# Altium footprint library atmega32u4.PcbLib: 3 footprints
Each footprint in its own frame and in the unit in brackets; x right, y up, seen from the top. Pads: shape width x height; smd on the part's side, far side on the other; paste and mask are expansions set on the pad; w line width, h text height; cw(c..) or ccw(c..) is an arc to the next point about the centre after c.
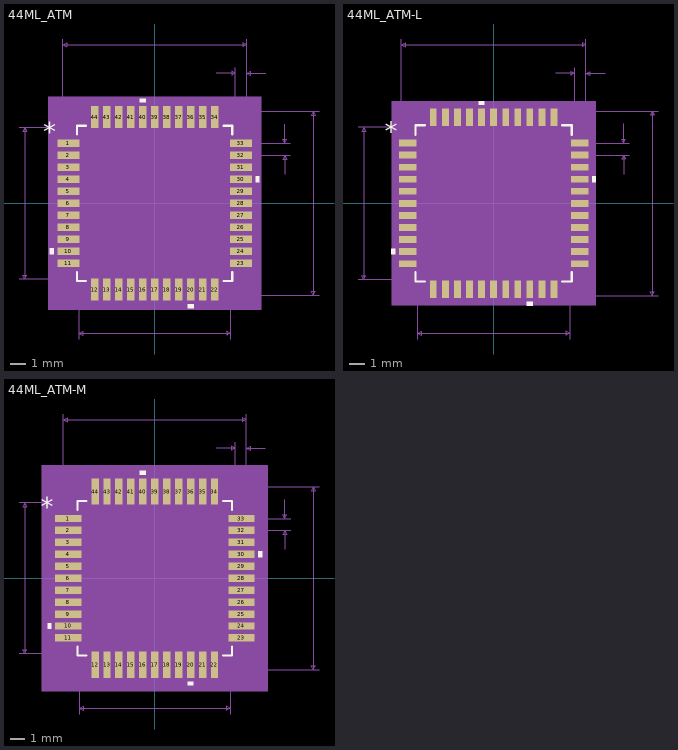
[diagram p0: the footprints below, top view; thin cyan lines are the x and y axes]

## 44ML_ATM [mm]
pads (44):
  rect 1.45x0.5 smd paste+0 mask+0: 1(-5.75,4) 2(-5.75,3.2) 3(-5.75,2.4) 4(-5.75,1.6) 5(-5.75,0.8) 6(-5.75,0) 7(-5.75,-0.8) 8(-5.75,-1.6) 9(-5.75,-2.4) 10(-5.75,-3.2) 11(-5.75,-4) 23(5.75,-4) 24(5.75,-3.2) 25(5.75,-2.4) 26(5.75,-1.6) 27(5.75,-0.8) 28(5.75,0) 29(5.75,0.8) 30(5.75,1.6) 31(5.75,2.4) 32(5.75,3.2) 33(5.75,4)
  rect 0.5x1.45 smd paste+0 mask+0: 12(-4,-5.75) 13(-3.2,-5.75) 14(-2.4,-5.75) 15(-1.6,-5.75) 16(-0.8,-5.75) 17(0,-5.75) 18(0.8,-5.75) 19(1.6,-5.75) 20(2.4,-5.75) 21(3.2,-5.75) 22(4,-5.75) 34(4,5.75) 35(3.2,5.75) 36(2.4,5.75) 37(1.6,5.75) 38(0.8,5.75) 39(0,5.75) 40(-0.8,5.75) 41(-1.6,5.75) 42(-2.4,5.75) 43(-3.2,5.75) 44(-4,5.75)
Top Overlay:
  region: -6.729,-3.009 -6.983,-3.009 -6.983,-3.39 -6.729,-3.39
  region: 2.591,-6.729 2.21,-6.729 2.21,-6.983 2.591,-6.983
  region: 6.729,1.79 6.983,1.79 6.983,1.409 6.729,1.409
  region: -0.61,6.729 -0.991,6.729 -0.991,6.983 -0.61,6.983
  lines w0.152: -5.177,-4.583 -5.177,-5.177 -4.583,-5.177 ; -5.177,4.583 -5.177,5.177 -4.583,5.177 ; 4.583,-5.177 5.177,-5.177 5.177,-4.583 ; 4.583,5.177 5.177,5.177 5.177,4.583
  text "*" at -7.428,4.146 h1.27
Mechanical 5:
  region: 7.11,-7.11 -7.11,-7.11 -7.11,7.11 7.11,7.11
Mechanical 7:
  lines w0.025: -9.046,-5.05 -4,-5.05 ; -9.046,5.05 -4,5.05 ; -6.125,4 -6.125,10.951 ; -5.05,-9.046 -5.05,-4 ; 4,-6.125 10.951,-6.125 ; 4,6.125 10.951,6.125 ; 4.105,8.665 5.375,8.665 ; 5.05,-9.046 5.05,-4 ; 5.375,4 5.375,9.046 ; 5.75,3.2 9.046,3.2 ; 5.75,4 9.046,4 ; 6.125,9.046 6.125,4 6.125,10.951 ; 7.395,8.665 6.125,8.665 ; 8.665,1.93 8.665,3.2 ; 8.665,5.27 8.665,4 ; -8.665,-5.05 -8.665,5.05 ; -8.665,-5.05 -8.792,-4.796 -8.538,-4.796 -8.665,-5.05 ; -8.665,5.05 -8.792,4.796 -8.538,4.796 -8.665,5.05 ; -6.125,10.57 6.125,10.57 ; -6.125,10.57 -5.871,10.697 -5.871,10.443 -6.125,10.57 ; -5.05,-8.665 5.05,-8.665 ; -5.05,-8.665 -4.796,-8.538 -4.796,-8.792 -5.05,-8.665 ; 5.05,-8.665 4.796,-8.538 4.796,-8.792 5.05,-8.665 ; 5.375,8.665 5.121,8.792 5.121,8.538 5.375,8.665 ; 6.125,8.665 6.379,8.792 6.379,8.538 6.125,8.665 ; 6.125,10.57 5.871,10.697 5.871,10.443 6.125,10.57 ; 8.665,3.2 8.538,2.946 8.792,2.946 8.665,3.2 ; 8.665,4 8.538,4.254 8.792,4.254 8.665,4 ; 10.57,-6.125 10.57,6.125 ; 10.57,-6.125 10.443,-5.871 10.697,-5.871 10.57,-6.125 ; 10.57,6.125 10.443,5.871 10.697,5.871 10.57,6.125
  text "Default Horiz Padstyle: r50_145" at -9.842,-12.475 h1.27
  text "Default Vert Padstyle: r50_145" at -9.525,-13.999 h1.27
  text "Alt 1 Padstyle: b152_229h76" at -8.572,-18.571 h1.27
  text "Alt 2 Padstyle: b229_152h76" at -8.572,-20.095 h1.27
  text "0.031in/0.8mm" at 9.173,3.283 h0.64
  text "0.03in/0.75mm" at 3.686,9.173 h0.64
  text "0.482in/12.25mm" at -2.381,11.078 h0.64
  text "0.398in/10.1mm" at -2.222,-9.808 h0.64
  text "0.398in/10.1mm" at -13.618,-0.318 h0.64
  text "0.482in/12.25mm" at 11.078,-0.318 h0.64
Mechanical 13:
  drawing of 185 lines, arcs and shapes, not listed
  text "*" at -4.987,3.765 h1.27
Mechanical 15:
  region: -4.504,-5.304 -5.304,-5.304 -5.304,-4.504 -6.729,-4.504 -6.729,4.504 -5.304,4.504 -5.304,5.304 -4.504,5.304 -4.504,6.729 4.504,6.729 4.504,5.304 5.304,5.304 5.304,4.504 6.729,4.504 6.729,-4.504 5.304,-4.504 5.304,-5.304 4.504,-5.304 4.504,-6.729 -4.504,-6.729
  lines w0.152: -6.729,-4.504 -5.304,-4.504 -5.304,-5.304 -4.504,-5.304 -4.504,-6.729 4.504,-6.729 4.504,-5.304 5.304,-5.304 5.304,-4.504 6.729,-4.504 6.729,4.504 5.304,4.504 5.304,5.304 4.504,5.304 4.504,6.729 -4.504,6.729 -4.504,5.304 -5.304,5.304 -5.304,4.504 -6.729,4.504 -6.729,-4.504
3D body: height 0.25, standoff 0, extent 0,0 0.254,0.254

## 44ML_ATM-L [mm]
pads (44):
  rect 1.15x0.45 smd paste+0 mask+0: 1(-5.7,4) 2(-5.7,3.2) 3(-5.7,2.4) 4(-5.7,1.6) 5(-5.7,0.8) 6(-5.7,0) 7(-5.7,-0.8) 8(-5.7,-1.6) 9(-5.7,-2.4) 10(-5.7,-3.2) 11(-5.7,-4) 23(5.7,-4) 24(5.7,-3.2) 25(5.7,-2.4) 26(5.7,-1.6) 27(5.7,-0.8) 28(5.7,0) 29(5.7,0.8) 30(5.7,1.6) 31(5.7,2.4) 32(5.7,3.2) 33(5.7,4)
  rect 0.45x1.15 smd paste+0 mask+0: 12(-4,-5.7) 13(-3.2,-5.7) 14(-2.4,-5.7) 15(-1.6,-5.7) 16(-0.8,-5.7) 17(0,-5.7) 18(0.8,-5.7) 19(1.6,-5.7) 20(2.4,-5.7) 21(3.2,-5.7) 22(4,-5.7) 34(4,5.7) 35(3.2,5.7) 36(2.4,5.7) 37(1.6,5.7) 38(0.8,5.7) 39(0,5.7) 40(-0.8,5.7) 41(-1.6,5.7) 42(-2.4,5.7) 43(-3.2,5.7) 44(-4,5.7)
Top Overlay:
  region: -6.529,-3.009 -6.783,-3.009 -6.783,-3.39 -6.529,-3.39
  region: 2.591,-6.529 2.21,-6.529 2.21,-6.783 2.591,-6.783
  region: 6.529,1.79 6.783,1.79 6.783,1.409 6.529,1.409
  region: -0.61,6.529 -0.991,6.529 -0.991,6.783 -0.61,6.783
  lines w0.152: -5.177,-4.558 -5.177,-5.177 -4.558,-5.177 ; -5.177,4.558 -5.177,5.177 -4.558,5.177 ; 4.558,-5.177 5.177,-5.177 5.177,-4.558 ; 4.558,5.177 5.177,5.177 5.177,4.558
  text "*" at -7.227,4.146 h1.27
Mechanical 5:
  region: 6.758,-6.758 -6.758,-6.758 -6.758,6.758 6.758,6.758
Mechanical 7:
  lines w0.025: -8.996,-5.05 -4,-5.05 ; -8.996,5.05 -4,5.05 ; -6.125,4 -6.125,10.901 ; -5.05,-8.996 -5.05,-4 ; 4,-6.125 10.901,-6.125 ; 4,6.125 10.901,6.125 ; 4.105,8.615 5.375,8.615 ; 5.05,-8.996 5.05,-4 ; 5.375,4 5.375,8.996 ; 5.7,3.2 8.996,3.2 ; 5.7,4 8.996,4 ; 6.125,8.996 6.125,4 6.125,10.901 ; 7.395,8.615 6.125,8.615 ; 8.615,1.93 8.615,3.2 ; 8.615,5.27 8.615,4 ; -8.615,-5.05 -8.615,5.05 ; -8.615,-5.05 -8.742,-4.796 -8.488,-4.796 -8.615,-5.05 ; -8.615,5.05 -8.742,4.796 -8.488,4.796 -8.615,5.05 ; -6.125,10.52 6.125,10.52 ; -6.125,10.52 -5.871,10.647 -5.871,10.393 -6.125,10.52 ; -5.05,-8.615 5.05,-8.615 ; -5.05,-8.615 -4.796,-8.488 -4.796,-8.742 -5.05,-8.615 ; 5.05,-8.615 4.796,-8.488 4.796,-8.742 5.05,-8.615 ; 5.375,8.615 5.121,8.742 5.121,8.488 5.375,8.615 ; 6.125,8.615 6.379,8.742 6.379,8.488 6.125,8.615 ; 6.125,10.52 5.871,10.647 5.871,10.393 6.125,10.52 ; 8.615,3.2 8.488,2.946 8.742,2.946 8.615,3.2 ; 8.615,4 8.488,4.254 8.742,4.254 8.615,4 ; 10.52,-6.125 10.52,6.125 ; 10.52,-6.125 10.393,-5.871 10.647,-5.871 10.52,-6.125 ; 10.52,6.125 10.393,5.871 10.647,5.871 10.52,6.125
  text "Default Horiz Padstyle: r45_115" at -9.842,-12.425 h1.27
  text "Default Vert Padstyle: r45_115" at -9.525,-13.949 h1.27
  text "Alt 1 Padstyle: b152_229h76" at -8.572,-18.521 h1.27
  text "Alt 2 Padstyle: b229_152h76" at -8.572,-20.045 h1.27
  text "0.031in/0.8mm" at 9.123,3.283 h0.64
  text "0.03in/0.75mm" at 3.686,9.123 h0.64
  text "0.482in/12.25mm" at -2.381,11.028 h0.64
  text "0.398in/10.1mm" at -2.222,-9.758 h0.64
  text "0.398in/10.1mm" at -13.568,-0.318 h0.64
  text "0.482in/12.25mm" at 11.028,-0.318 h0.64
Mechanical 13:
  drawing of 185 lines, arcs and shapes, not listed
  text "*" at -4.987,3.765 h1.27
Mechanical 15:
  region: -4.327,-5.152 -5.152,-5.152 -5.152,-4.327 -6.377,-4.327 -6.377,4.327 -5.152,4.327 -5.152,5.152 -4.327,5.152 -4.327,6.377 4.327,6.377 4.327,5.152 5.152,5.152 5.152,4.327 6.377,4.327 6.377,-4.327 5.152,-4.327 5.152,-5.152 4.327,-5.152 4.327,-6.377 -4.327,-6.377
  lines w0.152: -6.377,-4.327 -5.152,-4.327 -5.152,-5.152 -4.327,-5.152 -4.327,-6.377 4.327,-6.377 4.327,-5.152 5.152,-5.152 5.152,-4.327 6.377,-4.327 6.377,4.327 5.152,4.327 5.152,5.152 4.327,5.152 4.327,6.377 -4.327,6.377 -4.327,5.152 -5.152,5.152 -5.152,4.327 -6.377,4.327 -6.377,-4.327
3D body: height 0.25, standoff 0, extent 0,0 0.254,0.254

## 44ML_ATM-M [mm]
pads (44):
  rect 1.75x0.5 smd paste+0 mask+0: 1(-5.8,4) 2(-5.8,3.2) 3(-5.8,2.4) 4(-5.8,1.6) 5(-5.8,0.8) 6(-5.8,0) 7(-5.8,-0.8) 8(-5.8,-1.6) 9(-5.8,-2.4) 10(-5.8,-3.2) 11(-5.8,-4) 23(5.8,-4) 24(5.8,-3.2) 25(5.8,-2.4) 26(5.8,-1.6) 27(5.8,-0.8) 28(5.8,0) 29(5.8,0.8) 30(5.8,1.6) 31(5.8,2.4) 32(5.8,3.2) 33(5.8,4)
  rect 0.5x1.75 smd paste+0 mask+0: 12(-4,-5.8) 13(-3.2,-5.8) 14(-2.4,-5.8) 15(-1.6,-5.8) 16(-0.8,-5.8) 17(0,-5.8) 18(0.8,-5.8) 19(1.6,-5.8) 20(2.4,-5.8) 21(3.2,-5.8) 22(4,-5.8) 34(4,5.8) 35(3.2,5.8) 36(2.4,5.8) 37(1.6,5.8) 38(0.8,5.8) 39(0,5.8) 40(-0.8,5.8) 41(-1.6,5.8) 42(-2.4,5.8) 43(-3.2,5.8) 44(-4,5.8)
Top Overlay:
  region: -6.929,-3.009 -7.183,-3.009 -7.183,-3.39 -6.929,-3.39
  region: 2.591,-6.929 2.21,-6.929 2.21,-7.183 2.591,-7.183
  region: 6.929,1.79 7.183,1.79 7.183,1.409 6.929,1.409
  region: -0.61,6.929 -0.991,6.929 -0.991,7.183 -0.61,7.183
  lines w0.152: -5.177,-4.583 -5.177,-5.177 -4.583,-5.177 ; -5.177,4.583 -5.177,5.177 -4.583,5.177 ; 4.583,-5.177 5.177,-5.177 5.177,-4.583 ; 4.583,5.177 5.177,5.177 5.177,4.583
  text "*" at -7.627,4.146 h1.27
Mechanical 5:
  region: 7.564,-7.564 -7.564,-7.564 -7.564,7.564 7.564,7.564
Mechanical 7:
  lines w0.025: -9.096,-5.05 -4,-5.05 ; -9.096,5.05 -4,5.05 ; -6.125,4 -6.125,11.001 ; -5.05,-9.096 -5.05,-4 ; 4,-6.125 11.001,-6.125 ; 4,6.125 11.001,6.125 ; 4.105,8.715 5.375,8.715 ; 5.05,-9.096 5.05,-4 ; 5.375,4 5.375,9.096 ; 5.8,3.2 9.096,3.2 ; 5.8,4 9.096,4 ; 6.125,9.096 6.125,4 6.125,11.001 ; 7.395,8.715 6.125,8.715 ; 8.715,1.93 8.715,3.2 ; 8.715,5.27 8.715,4 ; -8.715,-5.05 -8.715,5.05 ; -8.715,-5.05 -8.842,-4.796 -8.588,-4.796 -8.715,-5.05 ; -8.715,5.05 -8.842,4.796 -8.588,4.796 -8.715,5.05 ; -6.125,10.62 6.125,10.62 ; -6.125,10.62 -5.871,10.747 -5.871,10.493 -6.125,10.62 ; -5.05,-8.715 5.05,-8.715 ; -5.05,-8.715 -4.796,-8.588 -4.796,-8.842 -5.05,-8.715 ; 5.05,-8.715 4.796,-8.588 4.796,-8.842 5.05,-8.715 ; 5.375,8.715 5.121,8.842 5.121,8.588 5.375,8.715 ; 6.125,8.715 6.379,8.842 6.379,8.588 6.125,8.715 ; 6.125,10.62 5.871,10.747 5.871,10.493 6.125,10.62 ; 8.715,3.2 8.588,2.946 8.842,2.946 8.715,3.2 ; 8.715,4 8.588,4.254 8.842,4.254 8.715,4 ; 10.62,-6.125 10.62,6.125 ; 10.62,-6.125 10.493,-5.871 10.747,-5.871 10.62,-6.125 ; 10.62,6.125 10.493,5.871 10.747,5.871 10.62,6.125
  text "Default Horiz Padstyle: r50_175" at -9.842,-12.525 h1.27
  text "Default Vert Padstyle: r50_175" at -9.525,-14.049 h1.27
  text "Alt 1 Padstyle: b152_229h76" at -8.572,-18.621 h1.27
  text "Alt 2 Padstyle: b229_152h76" at -8.572,-20.145 h1.27
  text "0.031in/0.8mm" at 9.223,3.283 h0.64
  text "0.03in/0.75mm" at 3.686,9.223 h0.64
  text "0.482in/12.25mm" at -2.381,11.128 h0.64
  text "0.398in/10.1mm" at -2.222,-9.858 h0.64
  text "0.398in/10.1mm" at -13.668,-0.318 h0.64
  text "0.482in/12.25mm" at 11.128,-0.318 h0.64
Mechanical 13:
  drawing of 185 lines, arcs and shapes, not listed
  text "*" at -4.987,3.765 h1.27
Mechanical 15:
  region: -4.758,-5.558 -5.558,-5.558 -5.558,-4.758 -7.183,-4.758 -7.183,4.758 -5.558,4.758 -5.558,5.558 -4.758,5.558 -4.758,7.183 4.758,7.183 4.758,5.558 5.558,5.558 5.558,4.758 7.183,4.758 7.183,-4.758 5.558,-4.758 5.558,-5.558 4.758,-5.558 4.758,-7.183 -4.758,-7.183
  lines w0.152: -7.183,-4.758 -5.558,-4.758 -5.558,-5.558 -4.758,-5.558 -4.758,-7.183 4.758,-7.183 4.758,-5.558 5.558,-5.558 5.558,-4.758 7.183,-4.758 7.183,4.758 5.558,4.758 5.558,5.558 4.758,5.558 4.758,7.183 -4.758,7.183 -4.758,5.558 -5.558,5.558 -5.558,4.758 -7.183,4.758 -7.183,-4.758
3D body: height 0.25, standoff 0, extent 0,0 0.254,0.254